# Altium integrated library MM8030-2610RJ3-conector.IntLib: 1 symbol
Pins are listed as number, name and electrical type; pins without a type are passive.

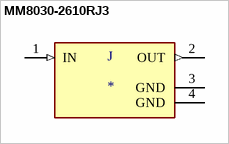
[diagram p0: symbol MM8030-2610RJ3]

## MM8030-2610RJ3
designator J
SWG Connector Receptacle, Female Socket 50Ohm Surface Mount Solder; MP: MM8030-2610RJ3; MF: Murata; Package: None; SnapEDA_Link: https://www.snapeda.com/parts/MM8030-2610RJ3/Murata%20Electronics%20North%20America/view-part/271470/?ref=snap; Digi-Key_Purchase_URL: https://www.digikey.com/product-detail/en/murata-electronics/MM8030-2610RJ3/490-5907-1-ND/3635133?utm_source=snapeda&utm_medium=aggregator&utm_campaign=symbol; Value: *; Digi-Key_Part_Number: 490-5907-1-ND
footprint MURATA_MM8030-2610RJ3
pins: 1 IN (in), 2 OUT (out), 3 GND (power), 4 GND (power)